# Altium footprint library passives.PCBLIB: 93 footprints (part 4 of 6)
Each footprint in its own frame and in the unit in brackets; x right, y up, seen from the top. Pads: shape width x height; smd on the part's side, far side on the other; paste and mask are expansions set on the pad; w line width, h text height; cw(c..) or ccw(c..) is an arc to the next point about the centre after c.
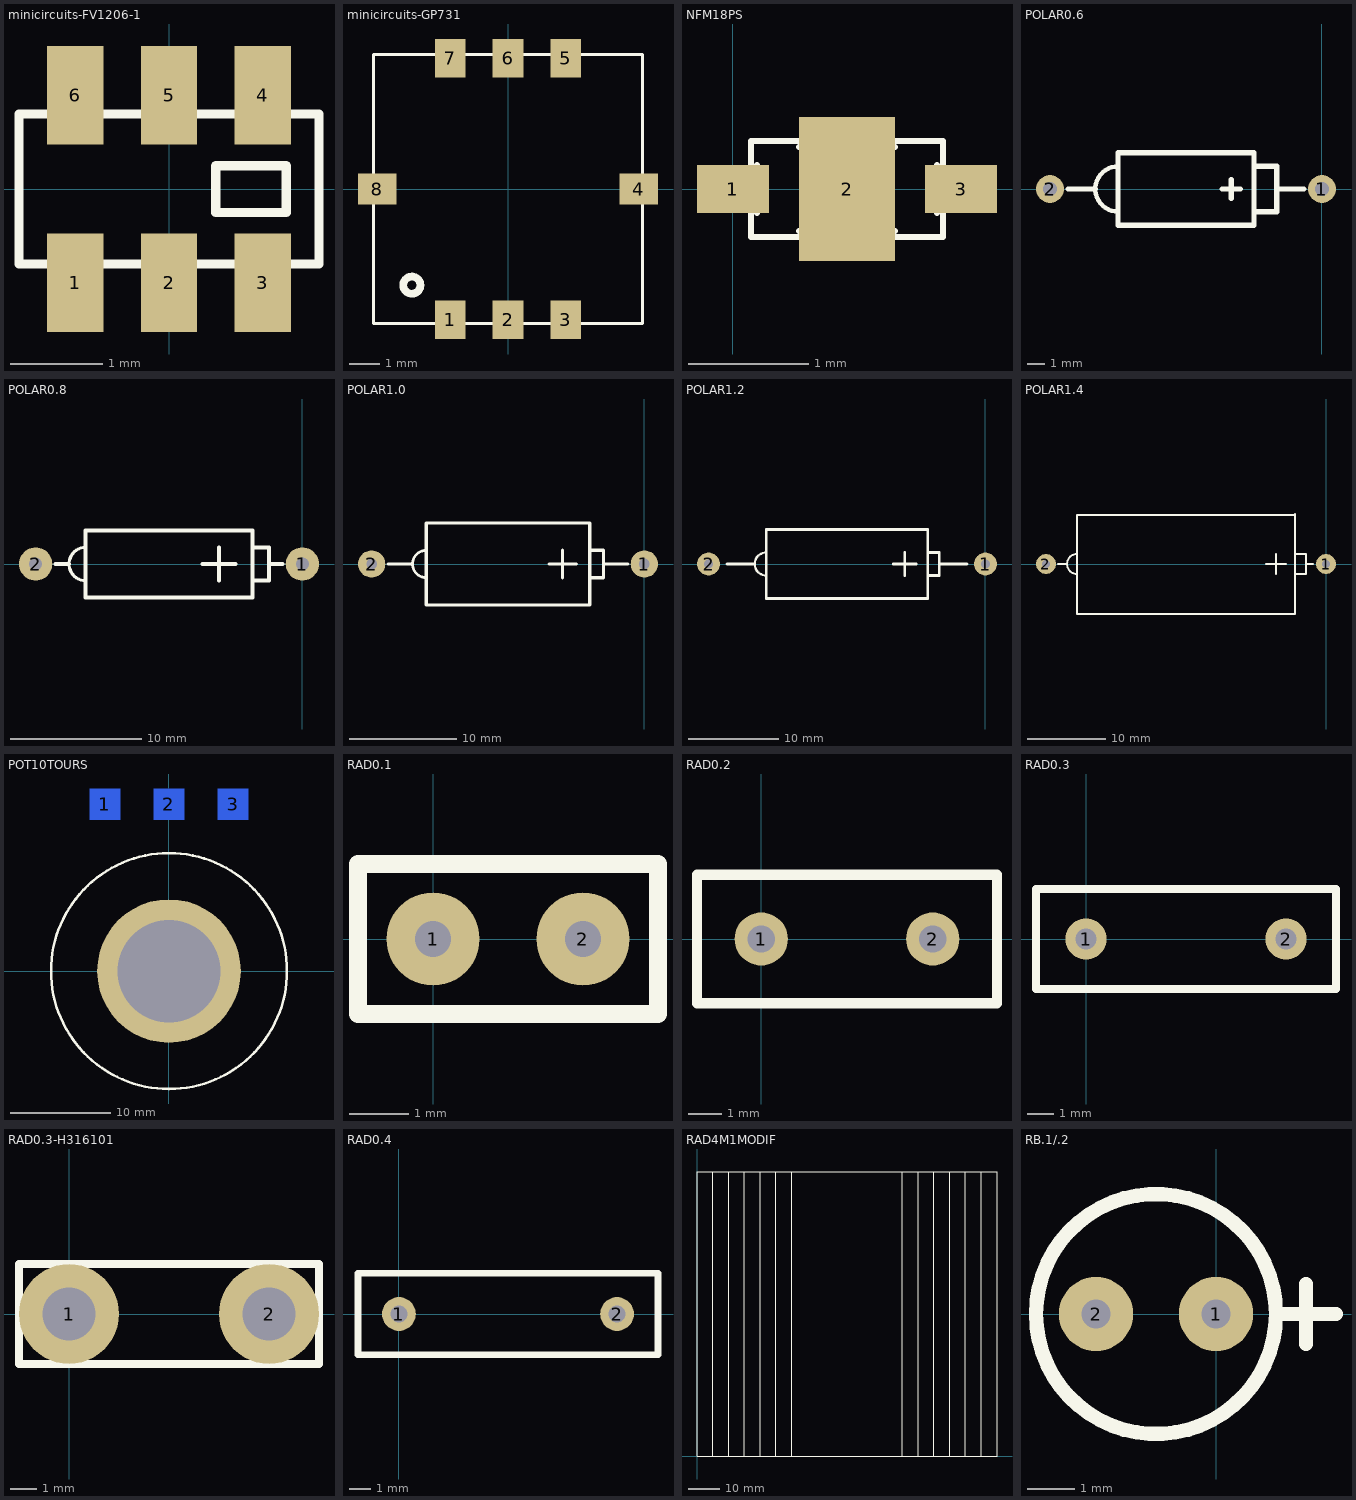
[diagram p3: the footprints below, top view; thin cyan lines are the x and y axes]

## minicircuits-FV1206-1 [mil]
pads (6):
  rect 24x42 smd: 1(-40,-40) 2(0,-40) 3(40,-40) 4(40,40) 5(0,40) 6(-40,40)
Top Overlay:
  lines w4: -64,-32 -18,-32 46,-32 64,-32 64,-4 64,16 64,32 34,32 -16,32 -64,32 -64,0 -64,-16 -64,-32 ; 20,-10 50,-10 50,10 20,10 20,-10

## minicircuits-GP731 [mil]
pads (8):
  rect 40x50 smd: 1(-75,-170) 2(0,-170) 3(75,-170) 5(75,170) 6(0,170) 7(-75,170)
  rect 50x40 smd: 4(170,0) 8(-170,0)
Top Overlay:
  circle w10: c-125,-125 r11.18
  lines w4: -175,-175 -100,-175 125,-175 175,-175 175,175 125,175 -125,175 -175,175 -175,0 -175,-175

## NFM18PS [mm]
pads (3):
  rect 0.6x0.4 smd: 1(0,0) 3(1.9,0)
  rect 0.8x1.2 smd: 2(0.95,0)
Top Overlay:
  lines w0.05: 0.2,-0.2 0.2,0.2 ; 0.55,-0.35 1.35,-0.35 ; 0.55,0.35 1.35,0.35 ; 1.7,-0.2 1.7,0.2 ; 0.15,-0.4 0.15,0.4 1.75,0.4 1.75,-0.4 0.15,-0.4

## POLAR0.6 [mil]
pads (2):
  round 62 hole 31.5: 1(0,0) 2(-600,0)
Top Overlay:
  lines w10: -450,-50 cw(c-450,0) -450,50
  lines w12: -560,0 -500,0 ; -220,0 -180,0 ; -200,-20 -200,20 ; -150,-50 -100,-50 -100,50 -150,50 ; -100,0 -40,0 ; -450,-80 -150,-80 -150,80 -450,80 -450,-80

## POLAR0.8 [mm]
pads (2):
  round 2.54 hole 1: 1(0,0) 2(-20.32,0)
Top Overlay:
  lines w0.254: -16.51,-1.27 cw(c-16.51,0) -16.51,1.27
  lines w0.305: -18.796,0 -17.78,0 ; -7.62,0 -5.08,0 ; -6.35,-1.27 -6.35,1.27 ; -3.81,-1.27 -2.54,-1.27 -2.54,1.27 -3.81,1.27 ; -2.54,0 -1.524,0 ; -16.51,-2.54 -3.81,-2.54 -3.81,2.54 -16.51,2.54 -16.51,-2.54

## POLAR1.0 [mm]
pads (2):
  round 2.54 hole 1: 1(0,0) 2(-25.4,0)
Top Overlay:
  lines w0.254: -20.32,-1.27 cw(c-20.32,0) -20.32,1.27
  lines w0.305: -23.876,0 -21.59,0 ; -8.89,0 -6.35,0 ; -7.62,-1.27 -7.62,1.27 ; -5.08,-1.27 -3.81,-1.27 -3.81,1.27 -5.08,1.27 ; -3.81,0 -1.524,0 ; -20.32,-3.81 -20.32,3.81 -5.08,3.81 -5.08,-3.81 -20.32,-3.81

## POLAR1.2 [mm]
pads (2):
  round 2.54 hole 1: 1(0,0) 2(-30.48,0)
Top Overlay:
  lines w0.254: -24.13,-1.27 cw(c-24.13,0) -24.13,1.27
  lines w0.305: -28.448,0 -25.4,0 ; -10.16,0 -7.62,0 ; -8.89,-1.27 -8.89,1.27 ; -6.35,-1.27 -5.08,-1.27 -5.08,1.27 -6.35,1.27 ; -5.08,0 -2.032,0 ; -24.13,-3.81 -24.13,3.81 -6.35,3.81 -6.35,-3.81 -24.13,-3.81

## POLAR1.4 [mil]
pads (2):
  round 100 hole 40: 1(0,0) 2(-1400,0)
Top Overlay:
  lines w10: -1245,-50 cw(c-1245,0) -1245,50
  lines w12: -1340,0 -1295,0 ; -300,0 -200,0 ; -250,-50 -250,50 ; -155,245 -1245,245 -1245,-250 -155,-250 -155,250 ; -150,-50 -100,-50 -100,50 -150,50 ; -100,0 -65,0

## POT10TOURS [mil]
pads (4):
  rect 120x120 smd far side: 1(-250,650) 2(0,650) 3(250,650)
  round 560 hole 400: ""(0,0)
Top Overlay:
  circle w10: c0,0 r460

## RAD0.1 [mil]
pads (2):
  round 62 hole 24: 1(0,0) 2(100,0)
Top Overlay:
  lines w12: -50,-50 150,-50 150,50 -50,50 -50,-50

## RAD0.2 [mil]
pads (2):
  round 62 hole 32: 1(0,0) 2(200,0)
Top Overlay:
  lines w12: -75,-75 -75,75 275,75 275,-75 -75,-75

## RAD0.3 [mil]
pads (2):
  round 62 hole 31.5: 1(0,0) 2(300,0)
Top Overlay:
  lines w12: -75,-75 375,-75 375,75 -75,75 -75,-75

## RAD0.3-H316101 [mil]
pads (2):
  round 150 hole 80: 1(0,0) 2(300,0)
Top Overlay:
  lines w12: -75,-75 -75,75 375,75 375,-75 -75,-75

## RAD0.4 [mil]
pads (2):
  round 62 hole 31.5: 1(0,0) 2(400,0)
Top Overlay:
  lines w12: -75,-75 -75,75 475,75 475,-75 -75,-75

## RAD4M1MODIF [mil]
Top Overlay:
  lines w8: 200,0 200,3600 ; 400,0 400,3600 ; 600,0 600,3600 ; 800,3600 800,0 1000,0 1000,3600 ; 1200,0 1200,3600 ; 2600,0 2600,3600 ; 2800,0 2800,3600 3000,3600 3000,0 3200,0 3200,3600 3400,3600 3400,0 3600,0 3600,3600 ; 0,0 3800,0 3800,3600 0,3600 0,0

## RB.1/.2 [mil]
pads (2):
  round 62 hole 24: 1(0,0) 2(-100,0)
Top Overlay:
  circle w12: c-50,0 r100
  lines w12: 50,0 100,0 ; 75,-25 75,25